# Altium schematic symbol library WCAP-ATUL.SchLib: 122 symbols (part 1 of 3)
Pins are listed as number, name and electrical type; pins without a type are passive.

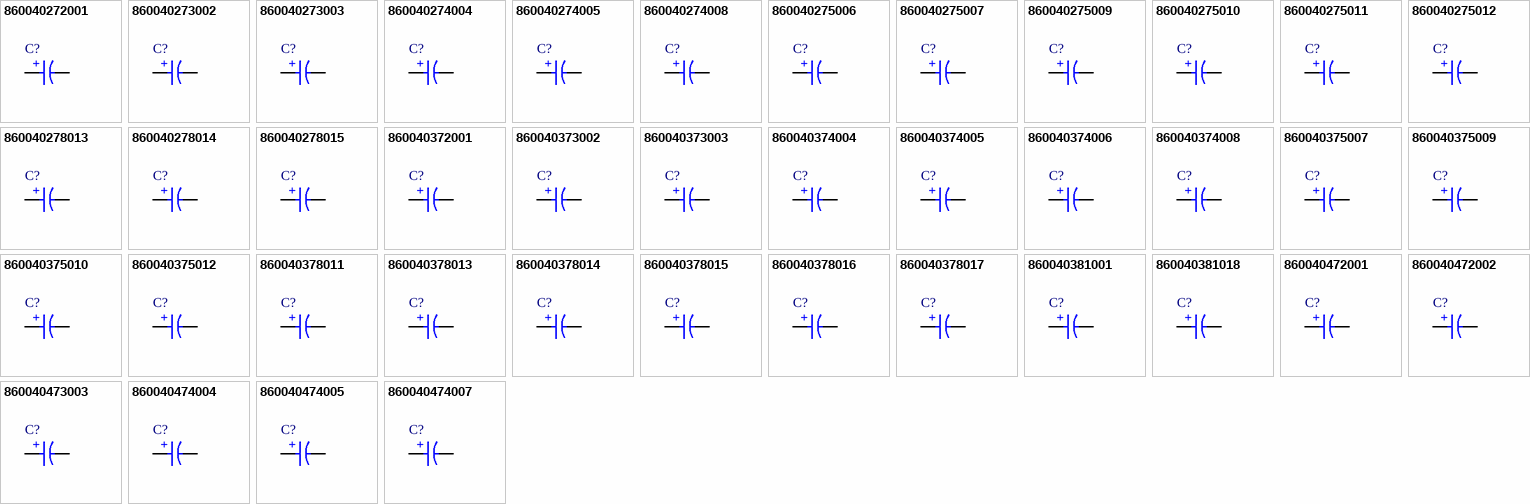
[diagram p0: symbols 860040272001 to 860040474007]

## 860040272001
designator C?, comment 100µF  (value not drawn)
WCAP-ATUL Aluminum Electrolytic Capacitor, Radial, THT, 5mm x 11mm, 100µF, 10V; Manufacturer Part Number: 860040272001; Manufacturer: Wurth Elektronik; Capacitance Tolerance: 20%; Dissipation Factor: 19%; Endurance: 4000h; Leakage Current: 10µA; Ripple Current: 215mA; Category: Aluminum Electrolytic Capacitors; Match Code: WCAP-ATUL; ComponentLink1Description: Website Link; ComponentLink1URL: https://www.we-online.com/redexpert/article/860040272001?ad; ComponentLink2Description: Datasheet Link; ComponentLink2URL: https://www.we-online.com/redexpert/spec/860040272001?ad; Mount: Through Hole; Min Operating Temperature: -40°C; Max Operating Temperature: 105°C; Packaging: Ammo Pack; Height: 11mm; Diameter: 5mm; Capacitance: 100µF; Rated Voltage (DC): 10V
footprint WCAP-ATUL_D5H11
simulation model 860040272001_100uF
pins: 1 P, 2 N
text: +

## 860040273002
designator C?, comment 220µF  (value not drawn)
WCAP-ATUL Aluminum Electrolytic Capacitor, Radial, THT, 6.3mm x 11mm, 220µF, 10V; Manufacturer Part Number: 860040273002; Manufacturer: Wurth Elektronik; Capacitance Tolerance: 20%; Dissipation Factor: 19%; Endurance: 4000h; Leakage Current: 22µA; Ripple Current: 340mA; Category: Aluminum Electrolytic Capacitors; Match Code: WCAP-ATUL; ComponentLink1Description: Website Link; ComponentLink1URL: https://www.we-online.com/redexpert/article/860040273002?ad; ComponentLink2Description: Datasheet Link; ComponentLink2URL: https://www.we-online.com/redexpert/spec/860040273002?ad; Mount: Through Hole; Min Operating Temperature: -40°C; Max Operating Temperature: 105°C; Packaging: Ammo Pack; Height: 11mm; Diameter: 6.3mm; Capacitance: 220µF; Rated Voltage (DC): 10V
footprint WCAP-ATUL_D6.3H11
simulation model 860040273002_220uF
pins: 1 P, 2 N
text: +

## 860040273003
designator C?, comment 330µF  (value not drawn)
WCAP-ATUL Aluminum Electrolytic Capacitor, Radial, THT, 6.3mm x 11mm, 330µF, 10V; Manufacturer Part Number: 860040273003; Manufacturer: Wurth Elektronik; Capacitance Tolerance: 20%; Dissipation Factor: 19%; Endurance: 4000h; Leakage Current: 33µA; Ripple Current: 380mA; Category: Aluminum Electrolytic Capacitors; Match Code: WCAP-ATUL; ComponentLink1Description: Website Link; ComponentLink1URL: https://www.we-online.com/redexpert/article/860040273003?ad; ComponentLink2Description: Datasheet Link; ComponentLink2URL: https://www.we-online.com/redexpert/spec/860040273003?ad; Mount: Through Hole; Min Operating Temperature: -40°C; Max Operating Temperature: 105°C; Packaging: Ammo Pack; Height: 11mm; Diameter: 6.3mm; Capacitance: 330µF; Rated Voltage (DC): 10V
footprint WCAP-ATUL_D6.3H11
simulation model 860040273003_330uF
pins: 1 P, 2 N
text: +

## 860040274004
designator C?, comment 470µF  (value not drawn)
WCAP-ATUL Aluminum Electrolytic Capacitor, Radial, THT, 8mm x 11.5mm, 470µF, 10V; Manufacturer Part Number: 860040274004; Manufacturer: Wurth Elektronik; Capacitance Tolerance: 20%; Dissipation Factor: 19%; Endurance: 6000h; Leakage Current: 47µA; Ripple Current: 600mA; Category: Aluminum Electrolytic Capacitors; Match Code: WCAP-ATUL; ComponentLink1Description: Website Link; ComponentLink1URL: https://www.we-online.com/redexpert/article/860040274004?ad; ComponentLink2Description: Datasheet Link; ComponentLink2URL: https://www.we-online.com/redexpert/spec/860040274004?ad; Mount: Through Hole; Min Operating Temperature: -40°C; Max Operating Temperature: 105°C; Packaging: Ammo Pack; Height: 11.5mm; Diameter: 8mm; Capacitance: 470µF; Rated Voltage (DC): 10V
footprint WCAP-ATUL_D8H11.5
simulation model 860040274004_470uF
pins: 1 P, 2 N
text: +

## 860040274005
designator C?, comment 680µF  (value not drawn)
WCAP-ATUL Aluminum Electrolytic Capacitor, Radial, THT, 8mm x 16mm, 680µF, 10V; Manufacturer Part Number: 860040274005; Manufacturer: Wurth Elektronik; Capacitance Tolerance: 20%; Dissipation Factor: 19%; Endurance: 6000h; Leakage Current: 68µA; Ripple Current: 770mA; Category: Aluminum Electrolytic Capacitors; Match Code: WCAP-ATUL; ComponentLink1Description: Website Link; ComponentLink1URL: https://www.we-online.com/redexpert/article/860040274005?ad; ComponentLink2Description: Datasheet Link; ComponentLink2URL: https://www.we-online.com/redexpert/spec/860040274005?ad; Mount: Through Hole; Min Operating Temperature: -40°C; Max Operating Temperature: 105°C; Packaging: Ammo Pack; Height: 16mm; Diameter: 8mm; Capacitance: 680µF; Rated Voltage (DC): 10V
footprint WCAP-ATUL_D8H16
simulation model 860040274005_680uF
pins: 1 P, 2 N
text: +

## 860040274008
designator C?, comment 1000µF  (value not drawn)
WCAP-ATUL Aluminum Electrolytic Capacitor, Radial, THT, 8mm x 20mm, 1000µF, 10V; Manufacturer Part Number: 860040274008; Manufacturer: Wurth Elektronik; Capacitance Tolerance: 20%; Dissipation Factor: 19%; Endurance: 6000h; Leakage Current: 100µA; Ripple Current: 1050mA; Category: Aluminum Electrolytic Capacitors; Match Code: WCAP-ATUL; ComponentLink1Description: Website Link; ComponentLink1URL: https://www.we-online.com/redexpert/article/860040274008?ad; ComponentLink2Description: Datasheet Link; ComponentLink2URL: https://www.we-online.com/redexpert/spec/860040274008?ad; Mount: Through Hole; Min Operating Temperature: -40°C; Max Operating Temperature: 105°C; Packaging: Ammo Pack; Height: 20mm; Diameter: 8mm; Capacitance: 1000µF; Rated Voltage (DC): 10V
footprint WCAP-ATUL_D8H20
simulation model 860040274008_1mF
pins: 1 P, 2 N
text: +

## 860040275006
designator C?, comment 680µF  (value not drawn)
WCAP-ATUL Aluminum Electrolytic Capacitor, Radial, THT, 10mm x 12.5mm, 680µF, 10V; Manufacturer Part Number: 860040275006; Manufacturer: Wurth Elektronik; Capacitance Tolerance: 20%; Dissipation Factor: 19%; Endurance: 6000h; Leakage Current: 68µA; Ripple Current: 800mA; Category: Aluminum Electrolytic Capacitors; Match Code: WCAP-ATUL; ComponentLink1Description: Website Link; ComponentLink1URL: https://www.we-online.com/redexpert/article/860040275006?ad; ComponentLink2Description: Datasheet Link; ComponentLink2URL: https://www.we-online.com/redexpert/spec/860040275006?ad; Mount: Through Hole; Min Operating Temperature: -40°C; Max Operating Temperature: 105°C; Packaging: Ammo Pack; Height: 12.5mm; Diameter: 10mm; Capacitance: 680µF; Rated Voltage (DC): 10V
footprint WCAP-ATUL_D10H12.5
simulation model 860040275006_680uF
pins: 1 P, 2 N
text: +

## 860040275007
designator C?, comment 820µF  (value not drawn)
WCAP-ATUL Aluminum Electrolytic Capacitor, Radial, THT, 10mm x 16mm, 820µF, 10V; Manufacturer Part Number: 860040275007; Manufacturer: Wurth Elektronik; Capacitance Tolerance: 20%; Dissipation Factor: 19%; Endurance: 6000h; Leakage Current: 82µA; Ripple Current: 920mA; Category: Aluminum Electrolytic Capacitors; Match Code: WCAP-ATUL; ComponentLink1Description: Website Link; ComponentLink1URL: https://www.we-online.com/redexpert/article/860040275007?ad; ComponentLink2Description: Datasheet Link; ComponentLink2URL: https://www.we-online.com/redexpert/spec/860040275007?ad; Mount: Through Hole; Min Operating Temperature: -40°C; Max Operating Temperature: 105°C; Packaging: Ammo Pack; Height: 16mm; Diameter: 10mm; Capacitance: 820µF; Rated Voltage (DC): 10V
footprint WCAP-ATUL_D10H16
simulation model 860040275007_820uF
pins: 1 P, 2 N
text: +

## 860040275009
designator C?, comment 1000µF  (value not drawn)
WCAP-ATUL Aluminum Electrolytic Capacitor, Radial, THT, 10mm x 16mm, 1000µF, 10V; Manufacturer Part Number: 860040275009; Manufacturer: Wurth Elektronik; Capacitance Tolerance: 20%; Dissipation Factor: 19%; Endurance: 6000h; Leakage Current: 100µA; Ripple Current: 1110mA; Category: Aluminum Electrolytic Capacitors; Match Code: WCAP-ATUL; ComponentLink1Description: Website Link; ComponentLink1URL: https://www.we-online.com/redexpert/article/860040275009?ad; ComponentLink2Description: Datasheet Link; ComponentLink2URL: https://www.we-online.com/redexpert/spec/860040275009?ad; Mount: Through Hole; Min Operating Temperature: -40°C; Max Operating Temperature: 105°C; Packaging: Ammo Pack; Height: 16mm; Diameter: 10mm; Capacitance: 1000µF; Rated Voltage (DC): 10V
footprint WCAP-ATUL_D10H16
simulation model 860040275009_1mF
pins: 1 P, 2 N
text: +

## 860040275010
designator C?, comment 1200µF  (value not drawn)
WCAP-ATUL Aluminum Electrolytic Capacitor, Radial, THT, 10mm x 20mm, 1200µF, 10V; Manufacturer Part Number: 860040275010; Manufacturer: Wurth Elektronik; Capacitance Tolerance: 20%; Dissipation Factor: 19%; Endurance: 6000h; Leakage Current: 120µA; Ripple Current: 1380mA; Category: Aluminum Electrolytic Capacitors; Match Code: WCAP-ATUL; ComponentLink1Description: Website Link; ComponentLink1URL: https://www.we-online.com/redexpert/article/860040275010?ad; ComponentLink2Description: Datasheet Link; ComponentLink2URL: https://www.we-online.com/redexpert/spec/860040275010?ad; Mount: Through Hole; Min Operating Temperature: -40°C; Max Operating Temperature: 105°C; Packaging: Ammo Pack; Height: 20mm; Diameter: 10mm; Capacitance: 1200µF; Rated Voltage (DC): 10V
footprint WCAP-ATUL_D10H20
simulation model 860040275010_1.2mF
pins: 1 P, 2 N
text: +

## 860040275011
designator C?, comment 1500µF  (value not drawn)
WCAP-ATUL Aluminum Electrolytic Capacitor, Radial, THT, 10mm x 25mm, 1500µF, 10V; Manufacturer Part Number: 860040275011; Manufacturer: Wurth Elektronik; Capacitance Tolerance: 20%; Dissipation Factor: 19%; Endurance: 6000h; Leakage Current: 150µA; Ripple Current: 1550mA; Category: Aluminum Electrolytic Capacitors; Match Code: WCAP-ATUL; ComponentLink1Description: Website Link; ComponentLink1URL: https://www.we-online.com/redexpert/article/860040275011?ad; ComponentLink2Description: Datasheet Link; ComponentLink2URL: https://www.we-online.com/redexpert/spec/860040275011?ad; Mount: Through Hole; Min Operating Temperature: -40°C; Max Operating Temperature: 105°C; Packaging: Ammo Pack; Height: 25mm; Diameter: 10mm; Capacitance: 1500µF; Rated Voltage (DC): 10V
footprint WCAP-ATUL_D10H25
simulation model 860040275011_1.5mF
pins: 1 P, 2 N
text: +

## 860040275012
designator C?, comment 2200µF  (value not drawn)
WCAP-ATUL Aluminum Electrolytic Capacitor, Radial, THT, 10mm x 30mm, 2200µF, 10V; Manufacturer Part Number: 860040275012; Manufacturer: Wurth Elektronik; Capacitance Tolerance: 20%; Dissipation Factor: 19%; Endurance: 6000h; Leakage Current: 220µA; Ripple Current: 1880mA; Category: Aluminum Electrolytic Capacitors; Match Code: WCAP-ATUL; ComponentLink1Description: Website Link; ComponentLink1URL: https://www.we-online.com/redexpert/article/860040275012?ad; ComponentLink2Description: Datasheet Link; ComponentLink2URL: https://www.we-online.com/redexpert/spec/860040275012?ad; Mount: Through Hole; Min Operating Temperature: -40°C; Max Operating Temperature: 105°C; Packaging: Ammo Pack; Height: 30mm; Diameter: 10mm; Capacitance: 2200µF; Rated Voltage (DC): 10V
footprint WCAP-ATUL_D10H30
simulation model 860040275012_2.2mF
pins: 1 P, 2 N
text: +

## 860040278013
designator C?, comment 2200µF  (value not drawn)
WCAP-ATUL Aluminum Electrolytic Capacitor, Radial, THT, 13mm x 20mm, 2200µF, 10V; Manufacturer Part Number: 860040278013; Manufacturer: Wurth Elektronik; Capacitance Tolerance: 20%; Dissipation Factor: 19%; Endurance: 8000h; Leakage Current: 220µA; Ripple Current: 1800mA; Category: Aluminum Electrolytic Capacitors; Match Code: WCAP-ATUL; ComponentLink1Description: Website Link; ComponentLink1URL: https://www.we-online.com/redexpert/article/860040278013?ad; ComponentLink2Description: Datasheet Link; ComponentLink2URL: https://www.we-online.com/redexpert/spec/860040278013?ad; Mount: Through Hole; Min Operating Temperature: -40°C; Max Operating Temperature: 105°C; Packaging: Ammo Pack; Height: 20mm; Diameter: 13mm; Capacitance: 2200µF; Rated Voltage (DC): 10V
footprint WCAP-ATUL_D13H20
simulation model 860040278013_2.2mF
pins: 1 P, 2 N
text: +

## 860040278014
designator C?, comment 3300µF  (value not drawn)
WCAP-ATUL Aluminum Electrolytic Capacitor, Radial, THT, 13mm x 25mm, 3300µF, 10V; Manufacturer Part Number: 860040278014; Manufacturer: Wurth Elektronik; Capacitance Tolerance: 20%; Dissipation Factor: 19%; Endurance: 8000h; Leakage Current: 330µA; Ripple Current: 2120mA; Category: Aluminum Electrolytic Capacitors; Match Code: WCAP-ATUL; ComponentLink1Description: Website Link; ComponentLink1URL: https://www.we-online.com/redexpert/article/860040278014?ad; ComponentLink2Description: Datasheet Link; ComponentLink2URL: https://www.we-online.com/redexpert/spec/860040278014?ad; Mount: Through Hole; Min Operating Temperature: -40°C; Max Operating Temperature: 105°C; Packaging: Ammo Pack; Height: 25mm; Diameter: 13mm; Capacitance: 3300µF; Rated Voltage (DC): 10V
footprint WCAP-ATUL_D13H25
simulation model 860040278014_3.3mF
pins: 1 P, 2 N
text: +

## 860040278015
designator C?, comment 3900µF  (value not drawn)
WCAP-ATUL Aluminum Electrolytic Capacitor, Radial, THT, 13mm x 30mm, 3900µF, 10V; Manufacturer Part Number: 860040278015; Manufacturer: Wurth Elektronik; Capacitance Tolerance: 20%; Dissipation Factor: 19%; Endurance: 8000h; Leakage Current: 390µA; Ripple Current: 2400mA; Category: Aluminum Electrolytic Capacitors; Match Code: WCAP-ATUL; ComponentLink1Description: Website Link; ComponentLink1URL: https://www.we-online.com/redexpert/article/860040278015?ad; ComponentLink2Description: Datasheet Link; ComponentLink2URL: https://www.we-online.com/redexpert/spec/860040278015?ad; Mount: Through Hole; Min Operating Temperature: -40°C; Max Operating Temperature: 105°C; Packaging: Ammo Pack; Height: 30mm; Diameter: 13mm; Capacitance: 3900µF; Rated Voltage (DC): 10V
footprint WCAP-ATUL_D13H30
simulation model 860040278015_3.9mF
pins: 1 P, 2 N
text: +

## 860040372001
designator C?, comment 56µF  (value not drawn)
WCAP-ATUL Aluminum Electrolytic Capacitor, Radial, THT, 5mm x 11mm, 56µF, 16V; Manufacturer Part Number: 860040372001; Manufacturer: Wurth Elektronik; Capacitance Tolerance: 20%; Dissipation Factor: 16%; Endurance: 5000h; Leakage Current: 8.96µA; Ripple Current: 200mA; Category: Aluminum Electrolytic Capacitors; Match Code: WCAP-ATUL; ComponentLink1Description: Website Link; ComponentLink1URL: https://www.we-online.com/redexpert/article/860040372001?ad; ComponentLink2Description: Datasheet Link; ComponentLink2URL: https://www.we-online.com/redexpert/spec/860040372001?ad; Mount: Through Hole; Min Operating Temperature: -40°C; Max Operating Temperature: 105°C; Packaging: Ammo Pack; Height: 11mm; Diameter: 5mm; Capacitance: 56µF; Rated Voltage (DC): 16V
footprint WCAP-ATUL_D5H11
simulation model 860040372001_56uF
pins: 1 P, 2 N
text: +

## 860040373002
designator C?, comment 100µF  (value not drawn)
WCAP-ATUL Aluminum Electrolytic Capacitor, Radial, THT, 6.3mm x 11mm, 100µF, 16V; Manufacturer Part Number: 860040373002; Manufacturer: Wurth Elektronik; Capacitance Tolerance: 20%; Dissipation Factor: 16%; Endurance: 5000h; Leakage Current: 16µA; Ripple Current: 280mA; Category: Aluminum Electrolytic Capacitors; Match Code: WCAP-ATUL; ComponentLink1Description: Website Link; ComponentLink1URL: https://www.we-online.com/redexpert/article/860040373002?ad; ComponentLink2Description: Datasheet Link; ComponentLink2URL: https://www.we-online.com/redexpert/spec/860040373002?ad; Mount: Through Hole; Min Operating Temperature: -40°C; Max Operating Temperature: 105°C; Packaging: Ammo Pack; Height: 11mm; Diameter: 6.3mm; Capacitance: 100µF; Rated Voltage (DC): 16V
footprint WCAP-ATUL_D6.3H11
simulation model 860040373002_100uF
pins: 1 P, 2 N
text: +

## 860040373003
designator C?, comment 120µF  (value not drawn)
WCAP-ATUL Aluminum Electrolytic Capacitor, Radial, THT, 6.3mm x 11mm, 120µF, 16V; Manufacturer Part Number: 860040373003; Manufacturer: Wurth Elektronik; Capacitance Tolerance: 20%; Dissipation Factor: 16%; Endurance: 5000h; Leakage Current: 19.2µA; Ripple Current: 310mA; Category: Aluminum Electrolytic Capacitors; Match Code: WCAP-ATUL; ComponentLink1Description: Website Link; ComponentLink1URL: https://www.we-online.com/redexpert/article/860040373003?ad; ComponentLink2Description: Datasheet Link; ComponentLink2URL: https://www.we-online.com/redexpert/spec/860040373003?ad; Mount: Through Hole; Min Operating Temperature: -40°C; Max Operating Temperature: 105°C; Packaging: Ammo Pack; Height: 11mm; Diameter: 6.3mm; Capacitance: 120µF; Rated Voltage (DC): 16V
footprint WCAP-ATUL_D6.3H11
simulation model 860040373003_120uF
pins: 1 P, 2 N
text: +

## 860040374004
designator C?, comment 220µF  (value not drawn)
WCAP-ATUL Aluminum Electrolytic Capacitor, Radial, THT, 8mm x 11.5mm, 220µF, 16V; Manufacturer Part Number: 860040374004; Manufacturer: Wurth Elektronik; Capacitance Tolerance: 20%; Dissipation Factor: 16%; Endurance: 7000h; Leakage Current: 35.2µA; Ripple Current: 480mA; Category: Aluminum Electrolytic Capacitors; Match Code: WCAP-ATUL; ComponentLink1Description: Website Link; ComponentLink1URL: https://www.we-online.com/redexpert/article/860040374004?ad; ComponentLink2Description: Datasheet Link; ComponentLink2URL: https://www.we-online.com/redexpert/spec/860040374004?ad; Mount: Through Hole; Min Operating Temperature: -40°C; Max Operating Temperature: 105°C; Packaging: Ammo Pack; Height: 11.5mm; Diameter: 8mm; Capacitance: 220µF; Rated Voltage (DC): 16V
footprint WCAP-ATUL_D8H11.5
simulation model 860040374004_220uF
pins: 1 P, 2 N
text: +

## 860040374005
designator C?, comment 330µF  (value not drawn)
WCAP-ATUL Aluminum Electrolytic Capacitor, Radial, THT, 8mm x 11.5mm, 330µF, 16V; Manufacturer Part Number: 860040374005; Manufacturer: Wurth Elektronik; Capacitance Tolerance: 20%; Dissipation Factor: 16%; Endurance: 7000h; Leakage Current: 52.8µA; Ripple Current: 600mA; Category: Aluminum Electrolytic Capacitors; Match Code: WCAP-ATUL; ComponentLink1Description: Website Link; ComponentLink1URL: https://www.we-online.com/redexpert/article/860040374005?ad; ComponentLink2Description: Datasheet Link; ComponentLink2URL: https://www.we-online.com/redexpert/spec/860040374005?ad; Mount: Through Hole; Min Operating Temperature: -40°C; Max Operating Temperature: 105°C; Packaging: Ammo Pack; Height: 11.5mm; Diameter: 8mm; Capacitance: 330µF; Rated Voltage (DC): 16V
footprint WCAP-ATUL_D8H11.5
simulation model 860040374005_330uF
pins: 1 P, 2 N
text: +

## 860040374006
designator C?, comment 470µF  (value not drawn)
WCAP-ATUL Aluminum Electrolytic Capacitor, Radial, THT, 8mm x 16mm, 470µF, 16V; Manufacturer Part Number: 860040374006; Manufacturer: Wurth Elektronik; Capacitance Tolerance: 20%; Dissipation Factor: 16%; Endurance: 7000h; Leakage Current: 75.2µA; Ripple Current: 780mA; Category: Aluminum Electrolytic Capacitors; Match Code: WCAP-ATUL; ComponentLink1Description: Website Link; ComponentLink1URL: https://www.we-online.com/redexpert/article/860040374006?ad; ComponentLink2Description: Datasheet Link; ComponentLink2URL: https://www.we-online.com/redexpert/spec/860040374006?ad; Mount: Through Hole; Min Operating Temperature: -40°C; Max Operating Temperature: 105°C; Packaging: Ammo Pack; Height: 16mm; Diameter: 8mm; Capacitance: 470µF; Rated Voltage (DC): 16V
footprint WCAP-ATUL_D8H16
simulation model 860040374006_470uF
pins: 1 P, 2 N
text: +

## 860040374008
designator C?, comment 680µF  (value not drawn)
WCAP-ATUL Aluminum Electrolytic Capacitor, Radial, THT, 8mm x 20mm, 680µF, 16V; Manufacturer Part Number: 860040374008; Manufacturer: Wurth Elektronik; Capacitance Tolerance: 20%; Dissipation Factor: 16%; Endurance: 7000h; Leakage Current: 108.8µA; Ripple Current: 1000mA; Category: Aluminum Electrolytic Capacitors; Match Code: WCAP-ATUL; ComponentLink1Description: Website Link; ComponentLink1URL: https://www.we-online.com/redexpert/article/860040374008?ad; ComponentLink2Description: Datasheet Link; ComponentLink2URL: https://www.we-online.com/redexpert/spec/860040374008?ad; Mount: Through Hole; Min Operating Temperature: -40°C; Max Operating Temperature: 105°C; Packaging: Ammo Pack; Height: 20mm; Diameter: 8mm; Capacitance: 680µF; Rated Voltage (DC): 16V
footprint WCAP-ATUL_D8H20
simulation model 860040374008_680uF
pins: 1 P, 2 N
text: +

## 860040375007
designator C?, comment 470µF  (value not drawn)
WCAP-ATUL Aluminum Electrolytic Capacitor, Radial, THT, 10mm x 12.5mm, 470µF, 16V; Manufacturer Part Number: 860040375007; Manufacturer: Wurth Elektronik; Capacitance Tolerance: 20%; Dissipation Factor: 16%; Endurance: 7000h; Leakage Current: 75.2µA; Ripple Current: 800mA; Category: Aluminum Electrolytic Capacitors; Match Code: WCAP-ATUL; ComponentLink1Description: Website Link; ComponentLink1URL: https://www.we-online.com/redexpert/article/860040375007?ad; ComponentLink2Description: Datasheet Link; ComponentLink2URL: https://www.we-online.com/redexpert/spec/860040375007?ad; Mount: Through Hole; Min Operating Temperature: -40°C; Max Operating Temperature: 105°C; Packaging: Ammo Pack; Height: 12.5mm; Diameter: 10mm; Capacitance: 470µF; Rated Voltage (DC): 16V
footprint WCAP-ATUL_D10H12.5
simulation model 860040375007_470uF
pins: 1 P, 2 N
text: +

## 860040375009
designator C?, comment 820µF  (value not drawn)
WCAP-ATUL Aluminum Electrolytic Capacitor, Radial, THT, 10mm x 20mm, 820µF, 16V; Manufacturer Part Number: 860040375009; Manufacturer: Wurth Elektronik; Capacitance Tolerance: 20%; Dissipation Factor: 16%; Endurance: 7000h; Leakage Current: 131.2µA; Ripple Current: 1280mA; Category: Aluminum Electrolytic Capacitors; Match Code: WCAP-ATUL; ComponentLink1Description: Website Link; ComponentLink1URL: https://www.we-online.com/redexpert/article/860040375009?ad; ComponentLink2Description: Datasheet Link; ComponentLink2URL: https://www.we-online.com/redexpert/spec/860040375009?ad; Mount: Through Hole; Min Operating Temperature: -40°C; Max Operating Temperature: 105°C; Packaging: Ammo Pack; Height: 20mm; Diameter: 10mm; Capacitance: 820µF; Rated Voltage (DC): 16V
footprint WCAP-ATUL_D10H20
simulation model 860040375009_820uF
pins: 1 P, 2 N
text: +

## 860040375010
designator C?, comment 1000µF  (value not drawn)
WCAP-ATUL Aluminum Electrolytic Capacitor, Radial, THT, 10mm x 20mm, 1000µF, 16V; Manufacturer Part Number: 860040375010; Manufacturer: Wurth Elektronik; Capacitance Tolerance: 20%; Dissipation Factor: 16%; Endurance: 7000h; Leakage Current: 160µA; Ripple Current: 1380mA; Category: Aluminum Electrolytic Capacitors; Match Code: WCAP-ATUL; ComponentLink1Description: Website Link; ComponentLink1URL: https://www.we-online.com/redexpert/article/860040375010?ad; ComponentLink2Description: Datasheet Link; ComponentLink2URL: https://www.we-online.com/redexpert/spec/860040375010?ad; Mount: Through Hole; Min Operating Temperature: -40°C; Max Operating Temperature: 105°C; Packaging: Ammo Pack; Height: 20mm; Diameter: 10mm; Capacitance: 1000µF; Rated Voltage (DC): 16V
footprint WCAP-ATUL_D10H20
simulation model 860040375010_1mF
pins: 1 P, 2 N
text: +

## 860040375012
designator C?, comment 1200µF  (value not drawn)
WCAP-ATUL Aluminum Electrolytic Capacitor, Radial, THT, 10mm x 25mm, 1200µF, 16V; Manufacturer Part Number: 860040375012; Manufacturer: Wurth Elektronik; Capacitance Tolerance: 20%; Dissipation Factor: 16%; Endurance: 7000h; Leakage Current: 192µA; Ripple Current: 1560mA; Category: Aluminum Electrolytic Capacitors; Match Code: WCAP-ATUL; ComponentLink1Description: Website Link; ComponentLink1URL: https://www.we-online.com/redexpert/article/860040375012?ad; ComponentLink2Description: Datasheet Link; ComponentLink2URL: https://www.we-online.com/redexpert/spec/860040375012?ad; Mount: Through Hole; Min Operating Temperature: -40°C; Max Operating Temperature: 105°C; Packaging: Ammo Pack; Height: 25mm; Diameter: 10mm; Capacitance: 1200µF; Rated Voltage (DC): 16V
footprint WCAP-ATUL_D10H25
simulation model 860040375012_1.2mF
pins: 1 P, 2 N
text: +

## 860040378011
designator C?, comment 1000µF  (value not drawn)
WCAP-ATUL Aluminum Electrolytic Capacitor, Radial, THT, 13mm x 16mm, 1000µF, 16V; Manufacturer Part Number: 860040378011; Manufacturer: Wurth Elektronik; Capacitance Tolerance: 20%; Dissipation Factor: 16%; Endurance: 10000h; Leakage Current: 160µA; Ripple Current: 1420mA; Category: Aluminum Electrolytic Capacitors; Match Code: WCAP-ATUL; ComponentLink1Description: Website Link; ComponentLink1URL: https://www.we-online.com/redexpert/article/860040378011?ad; ComponentLink2Description: Datasheet Link; ComponentLink2URL: https://www.we-online.com/redexpert/spec/860040378011?ad; Mount: Through Hole; Min Operating Temperature: -40°C; Max Operating Temperature: 105°C; Packaging: Ammo Pack; Height: 16mm; Diameter: 13mm; Capacitance: 1000µF; Rated Voltage (DC): 16V
footprint WCAP-ATUL_D13H16
simulation model 860040378011_1mF
pins: 1 P, 2 N
text: +

## 860040378013
designator C?, comment 1500µF  (value not drawn)
WCAP-ATUL Aluminum Electrolytic Capacitor, Radial, THT, 13mm x 20mm, 1500µF, 16V; Manufacturer Part Number: 860040378013; Manufacturer: Wurth Elektronik; Capacitance Tolerance: 20%; Dissipation Factor: 16%; Endurance: 10000h; Leakage Current: 240µA; Ripple Current: 1720mA; Category: Aluminum Electrolytic Capacitors; Match Code: WCAP-ATUL; ComponentLink1Description: Website Link; ComponentLink1URL: https://www.we-online.com/redexpert/article/860040378013?ad; ComponentLink2Description: Datasheet Link; ComponentLink2URL: https://www.we-online.com/redexpert/spec/860040378013?ad; Mount: Through Hole; Min Operating Temperature: -40°C; Max Operating Temperature: 105°C; Packaging: Ammo Pack; Height: 20mm; Diameter: 13mm; Capacitance: 1500µF; Rated Voltage (DC): 16V
footprint WCAP-ATUL_D13H20
simulation model 860040378013_1.5mF
pins: 1 P, 2 N
text: +

## 860040378014
designator C?, comment 1800µF  (value not drawn)
WCAP-ATUL Aluminum Electrolytic Capacitor, Radial, THT, 13mm x 25mm, 1800µF, 16V; Manufacturer Part Number: 860040378014; Manufacturer: Wurth Elektronik; Capacitance Tolerance: 20%; Dissipation Factor: 16%; Endurance: 10000h; Leakage Current: 288µA; Ripple Current: 2030mA; Category: Aluminum Electrolytic Capacitors; Match Code: WCAP-ATUL; ComponentLink1Description: Website Link; ComponentLink1URL: https://www.we-online.com/redexpert/article/860040378014?ad; ComponentLink2Description: Datasheet Link; ComponentLink2URL: https://www.we-online.com/redexpert/spec/860040378014?ad; Mount: Through Hole; Min Operating Temperature: -40°C; Max Operating Temperature: 105°C; Packaging: Ammo Pack; Height: 25mm; Diameter: 13mm; Capacitance: 1800µF; Rated Voltage (DC): 16V
footprint WCAP-ATUL_D13H25
simulation model 860040378014_1.8mF
pins: 1 P, 2 N
text: +

## 860040378015
designator C?, comment 2200µF  (value not drawn)
WCAP-ATUL Aluminum Electrolytic Capacitor, Radial, THT, 13mm x 25mm, 2200µF, 16V; Manufacturer Part Number: 860040378015; Manufacturer: Wurth Elektronik; Capacitance Tolerance: 20%; Dissipation Factor: 16%; Endurance: 10000h; Leakage Current: 352µA; Ripple Current: 2200mA; Category: Aluminum Electrolytic Capacitors; Match Code: WCAP-ATUL; ComponentLink1Description: Website Link; ComponentLink1URL: https://www.we-online.com/redexpert/article/860040378015?ad; ComponentLink2Description: Datasheet Link; ComponentLink2URL: https://www.we-online.com/redexpert/spec/860040378015?ad; Mount: Through Hole; Min Operating Temperature: -40°C; Max Operating Temperature: 105°C; Packaging: Ammo Pack; Height: 25mm; Diameter: 13mm; Capacitance: 2200µF; Rated Voltage (DC): 16V
footprint WCAP-ATUL_D13H25
simulation model 860040378015_2.2mF
pins: 1 P, 2 N
text: +

## 860040378016
designator C?, comment 2700µF  (value not drawn)
WCAP-ATUL Aluminum Electrolytic Capacitor, Radial, THT, 13mm x 30mm, 2700µF, 16V; Manufacturer Part Number: 860040378016; Manufacturer: Wurth Elektronik; Capacitance Tolerance: 20%; Dissipation Factor: 16%; Endurance: 10000h; Leakage Current: 432µA; Ripple Current: 2600mA; Category: Aluminum Electrolytic Capacitors; Match Code: WCAP-ATUL; ComponentLink1Description: Website Link; ComponentLink1URL: https://www.we-online.com/redexpert/article/860040378016?ad; ComponentLink2Description: Datasheet Link; ComponentLink2URL: https://www.we-online.com/redexpert/spec/860040378016?ad; Mount: Through Hole; Min Operating Temperature: -40°C; Max Operating Temperature: 105°C; Packaging: Ammo Pack; Height: 30mm; Diameter: 13mm; Capacitance: 2700µF; Rated Voltage (DC): 16V
footprint WCAP-ATUL_D13H30
simulation model 860040378016_2.7mF
pins: 1 P, 2 N
text: +

## 860040378017
designator C?, comment 3300µF  (value not drawn)
WCAP-ATUL Aluminum Electrolytic Capacitor, Radial, THT, 13mm x 35mm, 3300µF, 16V; Manufacturer Part Number: 860040378017; Manufacturer: Wurth Elektronik; Capacitance Tolerance: 20%; Dissipation Factor: 16%; Endurance: 10000h; Leakage Current: 528µA; Ripple Current: 2860mA; Category: Aluminum Electrolytic Capacitors; Match Code: WCAP-ATUL; ComponentLink1Description: Website Link; ComponentLink1URL: https://www.we-online.com/redexpert/article/860040378017?ad; ComponentLink2Description: Datasheet Link; ComponentLink2URL: https://www.we-online.com/redexpert/spec/860040378017?ad; Mount: Through Hole; Min Operating Temperature: -40°C; Max Operating Temperature: 105°C; Packaging: Ammo Pack; Height: 35mm; Diameter: 13mm; Capacitance: 3300µF; Rated Voltage (DC): 16V
footprint WCAP-ATUL_D13H35
simulation model 860040378017_3.3mF
pins: 1 P, 2 N
text: +

## 860040381001
designator C?, comment 10000µF  (value not drawn)
WCAP-ATUL Aluminum Electrolytic Capacitor, Radial, THT, 18mm x 40mm, 10000µF, 16V; Manufacturer Part Number: 860040381001; Manufacturer: Wurth Elektronik; Capacitance Tolerance: 20%; Dissipation Factor: 34%; Endurance: 10000h; Leakage Current: 1600µA; Ripple Current: 4290mA; Category: Aluminum Electrolytic Capacitors; Match Code: WCAP-ATUL; ComponentLink1Description: Website Link; ComponentLink1URL: https://www.we-online.com/redexpert/article/860040381001?ad; ComponentLink2Description: Datasheet Link; ComponentLink2URL: https://www.we-online.com/redexpert/spec/860040381001?ad; Mount: Through Hole; Min Operating Temperature: -40°C; Max Operating Temperature: 105°C; Packaging: Tray; Height: 40mm; Diameter: 18mm; Capacitance: 10000µF; Rated Voltage (DC): 16V
footprint WCAP-ATUL_D18H40
simulation model 860040381001_10mF
pins: 1 P, 2 N
text: +

## 860040381018
designator C?, comment 4700µF  (value not drawn)
WCAP-ATUL Aluminum Electrolytic Capacitor, Radial, THT, 18mm x 25mm, 4700µF, 16V; Manufacturer Part Number: 860040381018; Manufacturer: Wurth Elektronik; Capacitance Tolerance: 20%; Dissipation Factor: 16%; Endurance: 10000h; Leakage Current: 752µA; Ripple Current: 3000mA; Category: Aluminum Electrolytic Capacitors; Match Code: WCAP-ATUL; ComponentLink1Description: Website Link; ComponentLink1URL: https://www.we-online.com/redexpert/article/860040381018?ad; ComponentLink2Description: Datasheet Link; ComponentLink2URL: https://www.we-online.com/redexpert/spec/860040381018?ad; Mount: Through Hole; Min Operating Temperature: -40°C; Max Operating Temperature: 105°C; Packaging: Ammo Pack; Height: 25mm; Diameter: 18mm; Capacitance: 4700µF; Rated Voltage (DC): 16V
footprint WCAP-ATUL_D18H25
simulation model 860040381018_4.7mF
pins: 1 P, 2 N
text: +

## 860040472001
designator C?, comment 47µF  (value not drawn)
WCAP-ATUL Aluminum Electrolytic Capacitor, Radial, THT, 5mm x 11mm, 47µF, 25V; Manufacturer Part Number: 860040472001; Manufacturer: Wurth Elektronik; Capacitance Tolerance: 20%; Dissipation Factor: 14%; Endurance: 5000h; Leakage Current: 11.75µA; Ripple Current: 160mA; Category: Aluminum Electrolytic Capacitors; Match Code: WCAP-ATUL; ComponentLink1Description: Website Link; ComponentLink1URL: https://www.we-online.com/redexpert/article/860040472001?ad; ComponentLink2Description: Datasheet Link; ComponentLink2URL: https://www.we-online.com/redexpert/spec/860040472001?ad; Mount: Through Hole; Min Operating Temperature: -40°C; Max Operating Temperature: 105°C; Packaging: Ammo Pack; Height: 11mm; Diameter: 5mm; Capacitance: 47µF; Rated Voltage (DC): 25V
footprint WCAP-ATUL_D5H11
simulation model 860040472001_47uF
pins: 1 P, 2 N
text: +

## 860040472002
designator C?, comment 56µF  (value not drawn)
WCAP-ATUL Aluminum Electrolytic Capacitor, Radial, THT, 5mm x 11mm, 56µF, 25V; Manufacturer Part Number: 860040472002; Manufacturer: Wurth Elektronik; Capacitance Tolerance: 20%; Dissipation Factor: 14%; Endurance: 5000h; Leakage Current: 14µA; Ripple Current: 240mA; Category: Aluminum Electrolytic Capacitors; Match Code: WCAP-ATUL; ComponentLink1Description: Website Link; ComponentLink1URL: https://www.we-online.com/redexpert/article/860040472002?ad; ComponentLink2Description: Datasheet Link; ComponentLink2URL: https://www.we-online.com/redexpert/spec/860040472002?ad; Mount: Through Hole; Min Operating Temperature: -40°C; Max Operating Temperature: 105°C; Packaging: Ammo Pack; Height: 11mm; Diameter: 5mm; Capacitance: 56µF; Rated Voltage (DC): 25V
footprint WCAP-ATUL_D5H11
simulation model 860040472002_56uF
pins: 1 P, 2 N
text: +

## 860040473003
designator C?, comment 100µF  (value not drawn)
WCAP-ATUL Aluminum Electrolytic Capacitor, Radial, THT, 6.3mm x 11mm, 100µF, 25V; Manufacturer Part Number: 860040473003; Manufacturer: Wurth Elektronik; Capacitance Tolerance: 20%; Dissipation Factor: 14%; Endurance: 5000h; Leakage Current: 25µA; Ripple Current: 350mA; Category: Aluminum Electrolytic Capacitors; Match Code: WCAP-ATUL; ComponentLink1Description: Website Link; ComponentLink1URL: https://www.we-online.com/redexpert/article/860040473003?ad; ComponentLink2Description: Datasheet Link; ComponentLink2URL: https://www.we-online.com/redexpert/spec/860040473003?ad; Mount: Through Hole; Min Operating Temperature: -40°C; Max Operating Temperature: 105°C; Packaging: Ammo Pack; Height: 11mm; Diameter: 6.3mm; Capacitance: 100µF; Rated Voltage (DC): 25V
footprint WCAP-ATUL_D6.3H11
simulation model 860040473003_100uF
pins: 1 P, 2 N
text: +

## 860040474004
designator C?, comment 220µF  (value not drawn)
WCAP-ATUL Aluminum Electrolytic Capacitor, Radial, THT, 8mm x 11.5mm, 220µF, 25V; Manufacturer Part Number: 860040474004; Manufacturer: Wurth Elektronik; Capacitance Tolerance: 20%; Dissipation Factor: 14%; Endurance: 7000h; Leakage Current: 55µA; Ripple Current: 590mA; Category: Aluminum Electrolytic Capacitors; Match Code: WCAP-ATUL; ComponentLink1Description: Website Link; ComponentLink1URL: https://www.we-online.com/redexpert/article/860040474004?ad; ComponentLink2Description: Datasheet Link; ComponentLink2URL: https://www.we-online.com/redexpert/spec/860040474004?ad; Mount: Through Hole; Min Operating Temperature: -40°C; Max Operating Temperature: 105°C; Packaging: Ammo Pack; Height: 11.5mm; Diameter: 8mm; Capacitance: 220µF; Rated Voltage (DC): 25V
footprint WCAP-ATUL_D8H11.5
simulation model 860040474004_220uF
pins: 1 P, 2 N
text: +

## 860040474005
designator C?, comment 330µF  (value not drawn)
WCAP-ATUL Aluminum Electrolytic Capacitor, Radial, THT, 8mm x 16mm, 330µF, 25V; Manufacturer Part Number: 860040474005; Manufacturer: Wurth Elektronik; Capacitance Tolerance: 20%; Dissipation Factor: 14%; Endurance: 7000h; Leakage Current: 82.5µA; Ripple Current: 810mA; Category: Aluminum Electrolytic Capacitors; Match Code: WCAP-ATUL; ComponentLink1Description: Website Link; ComponentLink1URL: https://www.we-online.com/redexpert/article/860040474005?ad; ComponentLink2Description: Datasheet Link; ComponentLink2URL: https://www.we-online.com/redexpert/spec/860040474005?ad; Mount: Through Hole; Min Operating Temperature: -40°C; Max Operating Temperature: 105°C; Packaging: Ammo Pack; Height: 16mm; Diameter: 8mm; Capacitance: 330µF; Rated Voltage (DC): 25V
footprint WCAP-ATUL_D8H16
simulation model 860040474005_330uF
pins: 1 P, 2 N
text: +

## 860040474007
designator C?, comment 470µF  (value not drawn)
WCAP-ATUL Aluminum Electrolytic Capacitor, Radial, THT, 8mm x 20mm, 470µF, 25V; Manufacturer Part Number: 860040474007; Manufacturer: Wurth Elektronik; Capacitance Tolerance: 20%; Dissipation Factor: 14%; Endurance: 7000h; Leakage Current: 117.5µA; Ripple Current: 1020mA; Category: Aluminum Electrolytic Capacitors; Match Code: WCAP-ATUL; ComponentLink1Description: Website Link; ComponentLink1URL: https://www.we-online.com/redexpert/article/860040474007?ad; ComponentLink2Description: Datasheet Link; ComponentLink2URL: https://www.we-online.com/redexpert/spec/860040474007?ad; Mount: Through Hole; Min Operating Temperature: -40°C; Max Operating Temperature: 105°C; Packaging: Ammo Pack; Height: 20mm; Diameter: 8mm; Capacitance: 470µF; Rated Voltage (DC): 25V
footprint WCAP-ATUL_D8H20
simulation model 860040474007_470uF
pins: 1 P, 2 N
text: +

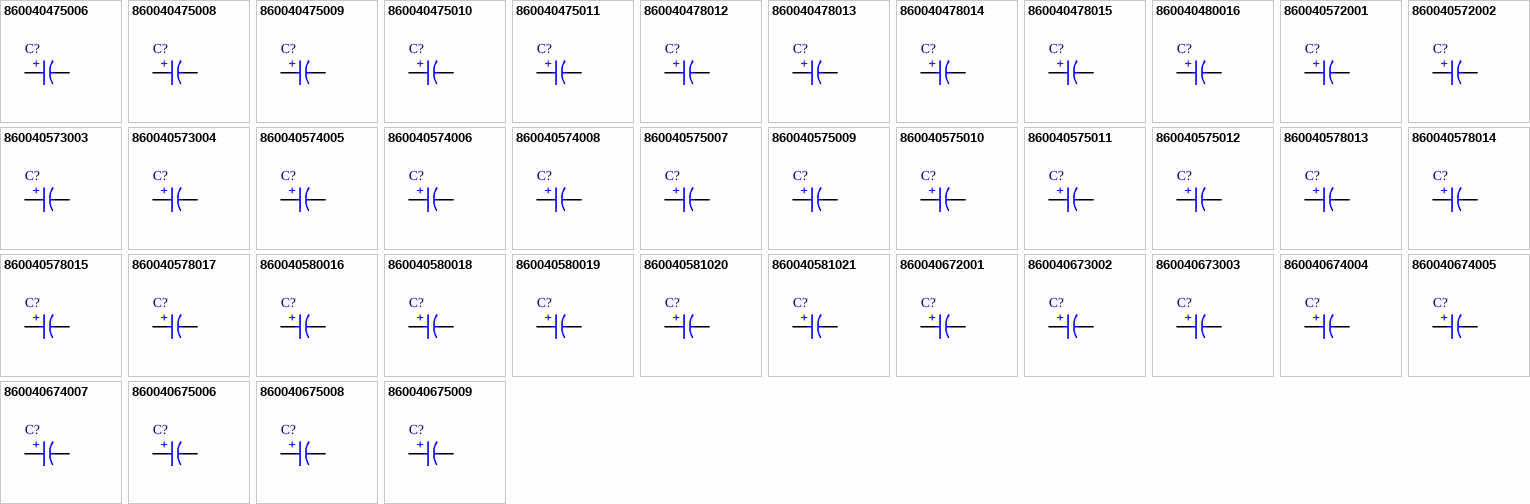
[diagram p1: symbols 860040475006 to 860040675009]

## 860040475006
designator C?, comment 330µF  (value not drawn)
WCAP-ATUL Aluminum Electrolytic Capacitor, Radial, THT, 10mm x 12.5mm, 330µF, 25V; Manufacturer Part Number: 860040475006; Manufacturer: Wurth Elektronik; Capacitance Tolerance: 20%; Dissipation Factor: 14%; Endurance: 7000h; Leakage Current: 82.5µA; Ripple Current: 826mA; Category: Aluminum Electrolytic Capacitors; Match Code: WCAP-ATUL; ComponentLink1Description: Website Link; ComponentLink1URL: https://www.we-online.com/redexpert/article/860040475006?ad; ComponentLink2Description: Datasheet Link; ComponentLink2URL: https://www.we-online.com/redexpert/spec/860040475006?ad; Mount: Through Hole; Min Operating Temperature: -40°C; Max Operating Temperature: 105°C; Packaging: Ammo Pack; Height: 12.5mm; Diameter: 10mm; Capacitance: 330µF; Rated Voltage (DC): 25V
footprint WCAP-ATUL_D10H12.5
simulation model 860040475006_330uF
pins: 1 P, 2 N
text: +

## 860040475008
designator C?, comment 470µF  (value not drawn)
WCAP-ATUL Aluminum Electrolytic Capacitor, Radial, THT, 10mm x 16mm, 470µF, 25V; Manufacturer Part Number: 860040475008; Manufacturer: Wurth Elektronik; Capacitance Tolerance: 20%; Dissipation Factor: 14%; Endurance: 7000h; Leakage Current: 117.5µA; Ripple Current: 1210mA; Category: Aluminum Electrolytic Capacitors; Match Code: WCAP-ATUL; ComponentLink1Description: Website Link; ComponentLink1URL: https://www.we-online.com/redexpert/article/860040475008?ad; ComponentLink2Description: Datasheet Link; ComponentLink2URL: https://www.we-online.com/redexpert/spec/860040475008?ad; Mount: Through Hole; Min Operating Temperature: -40°C; Max Operating Temperature: 105°C; Packaging: Ammo Pack; Height: 16mm; Diameter: 10mm; Capacitance: 470µF; Rated Voltage (DC): 25V
footprint WCAP-ATUL_D10H16
simulation model 860040475008_470uF
pins: 1 P, 2 N
text: +

## 860040475009
designator C?, comment 680µF  (value not drawn)
WCAP-ATUL Aluminum Electrolytic Capacitor, Radial, THT, 10mm x 20mm, 680µF, 25V; Manufacturer Part Number: 860040475009; Manufacturer: Wurth Elektronik; Capacitance Tolerance: 20%; Dissipation Factor: 14%; Endurance: 7000h; Leakage Current: 170µA; Ripple Current: 1400mA; Category: Aluminum Electrolytic Capacitors; Match Code: WCAP-ATUL; ComponentLink1Description: Website Link; ComponentLink1URL: https://www.we-online.com/redexpert/article/860040475009?ad; ComponentLink2Description: Datasheet Link; ComponentLink2URL: https://www.we-online.com/redexpert/spec/860040475009?ad; Mount: Through Hole; Min Operating Temperature: -40°C; Max Operating Temperature: 105°C; Packaging: Ammo Pack; Height: 20mm; Diameter: 10mm; Capacitance: 680µF; Rated Voltage (DC): 25V
footprint WCAP-ATUL_D10H20
simulation model 860040475009_680uF
pins: 1 P, 2 N
text: +

## 860040475010
designator C?, comment 820µF  (value not drawn)
WCAP-ATUL Aluminum Electrolytic Capacitor, Radial, THT, 10mm x 25mm, 820µF, 25V; Manufacturer Part Number: 860040475010; Manufacturer: Wurth Elektronik; Capacitance Tolerance: 20%; Dissipation Factor: 14%; Endurance: 7000h; Leakage Current: 205µA; Ripple Current: 1580mA; Category: Aluminum Electrolytic Capacitors; Match Code: WCAP-ATUL; ComponentLink1Description: Website Link; ComponentLink1URL: https://www.we-online.com/redexpert/article/860040475010?ad; ComponentLink2Description: Datasheet Link; ComponentLink2URL: https://www.we-online.com/redexpert/spec/860040475010?ad; Mount: Through Hole; Min Operating Temperature: -40°C; Max Operating Temperature: 105°C; Packaging: Ammo Pack; Height: 25mm; Diameter: 10mm; Capacitance: 820µF; Rated Voltage (DC): 25V
footprint WCAP-ATUL_D10H25
simulation model 860040475010_820uF
pins: 1 P, 2 N
text: +

## 860040475011
designator C?, comment 1000µF  (value not drawn)
WCAP-ATUL Aluminum Electrolytic Capacitor, Radial, THT, 10mm x 30mm, 1000µF, 25V; Manufacturer Part Number: 860040475011; Manufacturer: Wurth Elektronik; Capacitance Tolerance: 20%; Dissipation Factor: 14%; Endurance: 7000h; Leakage Current: 250µA; Ripple Current: 1820mA; Category: Aluminum Electrolytic Capacitors; Match Code: WCAP-ATUL; ComponentLink1Description: Website Link; ComponentLink1URL: https://www.we-online.com/redexpert/article/860040475011?ad; ComponentLink2Description: Datasheet Link; ComponentLink2URL: https://www.we-online.com/redexpert/spec/860040475011?ad; Mount: Through Hole; Min Operating Temperature: -40°C; Max Operating Temperature: 105°C; Packaging: Ammo Pack; Height: 30mm; Diameter: 10mm; Capacitance: 1000µF; Rated Voltage (DC): 25V
footprint WCAP-ATUL_D10H30
simulation model 860040475011_1mF
pins: 1 P, 2 N
text: +

## 860040478012
designator C?, comment 1000µF  (value not drawn)
WCAP-ATUL Aluminum Electrolytic Capacitor, Radial, THT, 13mm x 20mm, 1000µF, 25V; Manufacturer Part Number: 860040478012; Manufacturer: Wurth Elektronik; Capacitance Tolerance: 20%; Dissipation Factor: 14%; Endurance: 10000h; Leakage Current: 250µA; Ripple Current: 1800mA; Category: Aluminum Electrolytic Capacitors; Match Code: WCAP-ATUL; ComponentLink1Description: Website Link; ComponentLink1URL: https://www.we-online.com/redexpert/article/860040478012?ad; ComponentLink2Description: Datasheet Link; ComponentLink2URL: https://www.we-online.com/redexpert/spec/860040478012?ad; Mount: Through Hole; Min Operating Temperature: -40°C; Max Operating Temperature: 105°C; Packaging: Ammo Pack; Height: 20mm; Diameter: 13mm; Capacitance: 1000µF; Rated Voltage (DC): 25V
footprint WCAP-ATUL_D13H20
simulation model 860040478012_1mF
pins: 1 P, 2 N
text: +

## 860040478013
designator C?, comment 1500µF  (value not drawn)
WCAP-ATUL Aluminum Electrolytic Capacitor, Radial, THT, 13mm x 25mm, 1500µF, 25V; Manufacturer Part Number: 860040478013; Manufacturer: Wurth Elektronik; Capacitance Tolerance: 20%; Dissipation Factor: 14%; Endurance: 10000h; Leakage Current: 375µA; Ripple Current: 2240mA; Category: Aluminum Electrolytic Capacitors; Match Code: WCAP-ATUL; ComponentLink1Description: Website Link; ComponentLink1URL: https://www.we-online.com/redexpert/article/860040478013?ad; ComponentLink2Description: Datasheet Link; ComponentLink2URL: https://www.we-online.com/redexpert/spec/860040478013?ad; Mount: Through Hole; Min Operating Temperature: -40°C; Max Operating Temperature: 105°C; Packaging: Ammo Pack; Height: 25mm; Diameter: 13mm; Capacitance: 1500µF; Rated Voltage (DC): 25V
footprint WCAP-ATUL_D13H25
simulation model 860040478013_1.5mF
pins: 1 P, 2 N
text: +

## 860040478014
designator C?, comment 1800µF  (value not drawn)
WCAP-ATUL Aluminum Electrolytic Capacitor, Radial, THT, 13mm x 30mm, 1800µF, 25V; Manufacturer Part Number: 860040478014; Manufacturer: Wurth Elektronik; Capacitance Tolerance: 20%; Dissipation Factor: 14%; Endurance: 10000h; Leakage Current: 450µA; Ripple Current: 2640mA; Category: Aluminum Electrolytic Capacitors; Match Code: WCAP-ATUL; ComponentLink1Description: Website Link; ComponentLink1URL: https://www.we-online.com/redexpert/article/860040478014?ad; ComponentLink2Description: Datasheet Link; ComponentLink2URL: https://www.we-online.com/redexpert/spec/860040478014?ad; Mount: Through Hole; Min Operating Temperature: -40°C; Max Operating Temperature: 105°C; Packaging: Ammo Pack; Height: 30mm; Diameter: 13mm; Capacitance: 1800µF; Rated Voltage (DC): 25V
footprint WCAP-ATUL_D13H30
simulation model 860040478014_1.8mF
pins: 1 P, 2 N
text: +

## 860040478015
designator C?, comment 2200µF  (value not drawn)
WCAP-ATUL Aluminum Electrolytic Capacitor, Radial, THT, 13mm x 35mm, 2200µF, 25V; Manufacturer Part Number: 860040478015; Manufacturer: Wurth Elektronik; Capacitance Tolerance: 20%; Dissipation Factor: 14%; Endurance: 10000h; Leakage Current: 550µA; Ripple Current: 2880mA; Category: Aluminum Electrolytic Capacitors; Match Code: WCAP-ATUL; ComponentLink1Description: Website Link; ComponentLink1URL: https://www.we-online.com/redexpert/article/860040478015?ad; ComponentLink2Description: Datasheet Link; ComponentLink2URL: https://www.we-online.com/redexpert/spec/860040478015?ad; Mount: Through Hole; Min Operating Temperature: -40°C; Max Operating Temperature: 105°C; Packaging: Ammo Pack; Height: 35mm; Diameter: 13mm; Capacitance: 2200µF; Rated Voltage (DC): 25V
footprint WCAP-ATUL_D13H35
simulation model 860040478015_2.2mF
pins: 1 P, 2 N
text: +

## 860040480016
designator C?, comment 2700µF  (value not drawn)
WCAP-ATUL Aluminum Electrolytic Capacitor, Radial, THT, 16mm x 25mm, 2700µF, 25V; Manufacturer Part Number: 860040480016; Manufacturer: Wurth Elektronik; Capacitance Tolerance: 20%; Dissipation Factor: 14%; Endurance: 10000h; Leakage Current: 675µA; Ripple Current: 2820mA; Category: Aluminum Electrolytic Capacitors; Match Code: WCAP-ATUL; ComponentLink1Description: Website Link; ComponentLink1URL: https://www.we-online.com/redexpert/article/860040480016?ad; ComponentLink2Description: Datasheet Link; ComponentLink2URL: https://www.we-online.com/redexpert/spec/860040480016?ad; Mount: Through Hole; Min Operating Temperature: -40°C; Max Operating Temperature: 105°C; Packaging: Ammo Pack; Height: 25mm; Diameter: 16mm; Capacitance: 2700µF; Rated Voltage (DC): 25V
footprint WCAP-ATUL_D16H25
simulation model 860040480016_2.7mF
pins: 1 P, 2 N
text: +

## 860040572001
designator C?, comment 33µF  (value not drawn)
WCAP-ATUL Aluminum Electrolytic Capacitor, Radial, THT, 5mm x 11mm, 33µF, 35V; Manufacturer Part Number: 860040572001; Manufacturer: Wurth Elektronik; Capacitance Tolerance: 20%; Dissipation Factor: 12%; Endurance: 5000h; Leakage Current: 11.55µA; Ripple Current: 230mA; Category: Aluminum Electrolytic Capacitors; Match Code: WCAP-ATUL; ComponentLink1Description: Website Link; ComponentLink1URL: https://www.we-online.com/redexpert/article/860040572001?ad; ComponentLink2Description: Datasheet Link; ComponentLink2URL: https://www.we-online.com/redexpert/spec/860040572001?ad; Mount: Through Hole; Min Operating Temperature: -40°C; Max Operating Temperature: 105°C; Packaging: Ammo Pack; Height: 11mm; Diameter: 5mm; Capacitance: 33µF; Rated Voltage (DC): 35V
footprint WCAP-ATUL_D5H11
simulation model 860040572001_33uF
pins: 1 P, 2 N
text: +

## 860040572002
designator C?, comment 47µF  (value not drawn)
WCAP-ATUL Aluminum Electrolytic Capacitor, Radial, THT, 5mm x 11mm, 47µF, 35V; Manufacturer Part Number: 860040572002; Manufacturer: Wurth Elektronik; Capacitance Tolerance: 20%; Dissipation Factor: 12%; Endurance: 5000h; Leakage Current: 16.45µA; Ripple Current: 280mA; Category: Aluminum Electrolytic Capacitors; Match Code: WCAP-ATUL; ComponentLink1Description: Website Link; ComponentLink1URL: https://www.we-online.com/redexpert/article/860040572002?ad; ComponentLink2Description: Datasheet Link; ComponentLink2URL: https://www.we-online.com/redexpert/spec/860040572002?ad; Mount: Through Hole; Min Operating Temperature: -40°C; Max Operating Temperature: 105°C; Packaging: Ammo Pack; Height: 11mm; Diameter: 5mm; Capacitance: 47µF; Rated Voltage (DC): 35V
footprint WCAP-ATUL_D5H11
simulation model 860040572002_47uF
pins: 1 P, 2 N
text: +

## 860040573003
designator C?, comment 56µF  (value not drawn)
WCAP-ATUL Aluminum Electrolytic Capacitor, Radial, THT, 6.3mm x 11mm, 56µF, 35V; Manufacturer Part Number: 860040573003; Manufacturer: Wurth Elektronik; Capacitance Tolerance: 20%; Dissipation Factor: 12%; Endurance: 5000h; Leakage Current: 19.6µA; Ripple Current: 360mA; Category: Aluminum Electrolytic Capacitors; Match Code: WCAP-ATUL; ComponentLink1Description: Website Link; ComponentLink1URL: https://www.we-online.com/redexpert/article/860040573003?ad; ComponentLink2Description: Datasheet Link; ComponentLink2URL: https://www.we-online.com/redexpert/spec/860040573003?ad; Mount: Through Hole; Min Operating Temperature: -40°C; Max Operating Temperature: 105°C; Packaging: Ammo Pack; Height: 11mm; Diameter: 6.3mm; Capacitance: 56µF; Rated Voltage (DC): 35V
footprint WCAP-ATUL_D6.3H11
simulation model 860040573003_56uF
pins: 1 P, 2 N
text: +

## 860040573004
designator C?, comment 100µF  (value not drawn)
WCAP-ATUL Aluminum Electrolytic Capacitor, Radial, THT, 6.3mm x 11mm, 100µF, 35V; Manufacturer Part Number: 860040573004; Manufacturer: Wurth Elektronik; Capacitance Tolerance: 20%; Dissipation Factor: 12%; Endurance: 5000h; Leakage Current: 35µA; Ripple Current: 450mA; Category: Aluminum Electrolytic Capacitors; Match Code: WCAP-ATUL; ComponentLink1Description: Website Link; ComponentLink1URL: https://www.we-online.com/redexpert/article/860040573004?ad; ComponentLink2Description: Datasheet Link; ComponentLink2URL: https://www.we-online.com/redexpert/spec/860040573004?ad; Mount: Through Hole; Min Operating Temperature: -40°C; Max Operating Temperature: 105°C; Packaging: Ammo Pack; Height: 11mm; Diameter: 6.3mm; Capacitance: 100µF; Rated Voltage (DC): 35V
footprint WCAP-ATUL_D6.3H11
simulation model 860040573004_100uF
pins: 1 P, 2 N
text: +